# EAGLE library part R_V_DUAL (library baiyun)
Stereo Volume Control
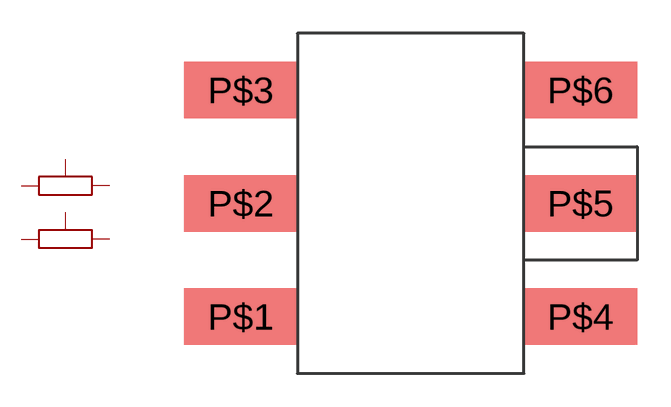
[diagram p198: symbol with the pads of R_V_DUAL; footprint R_V_DUAL]

Designator prefix -

## R_V_DUAL  [R_V_DUAL]
P$1  P$1
P$2  P$2
P$3  P$3
P$4  P$4
P$5  P$5
P$6  P$6

## Footprint R_V_DUAL (pad centres in mm)
smd 5.08 x 2.54: P$1 0,0; P$2 0,5.08; P$3 0,10.16; P$4 15.24,0; P$5 15.24,5.08; P$6 15.24,10.16